# Altium footprint library Quadcopter.PcbLib: 41 footprints (part 1 of 3)
Each footprint in its own frame and in the unit in brackets; x right, y up, seen from the top. Pads: shape width x height; smd on the part's side, far side on the other; paste and mask are expansions set on the pad; w line width, h text height; cw(c..) or ccw(c..) is an arc to the next point about the centre after c.
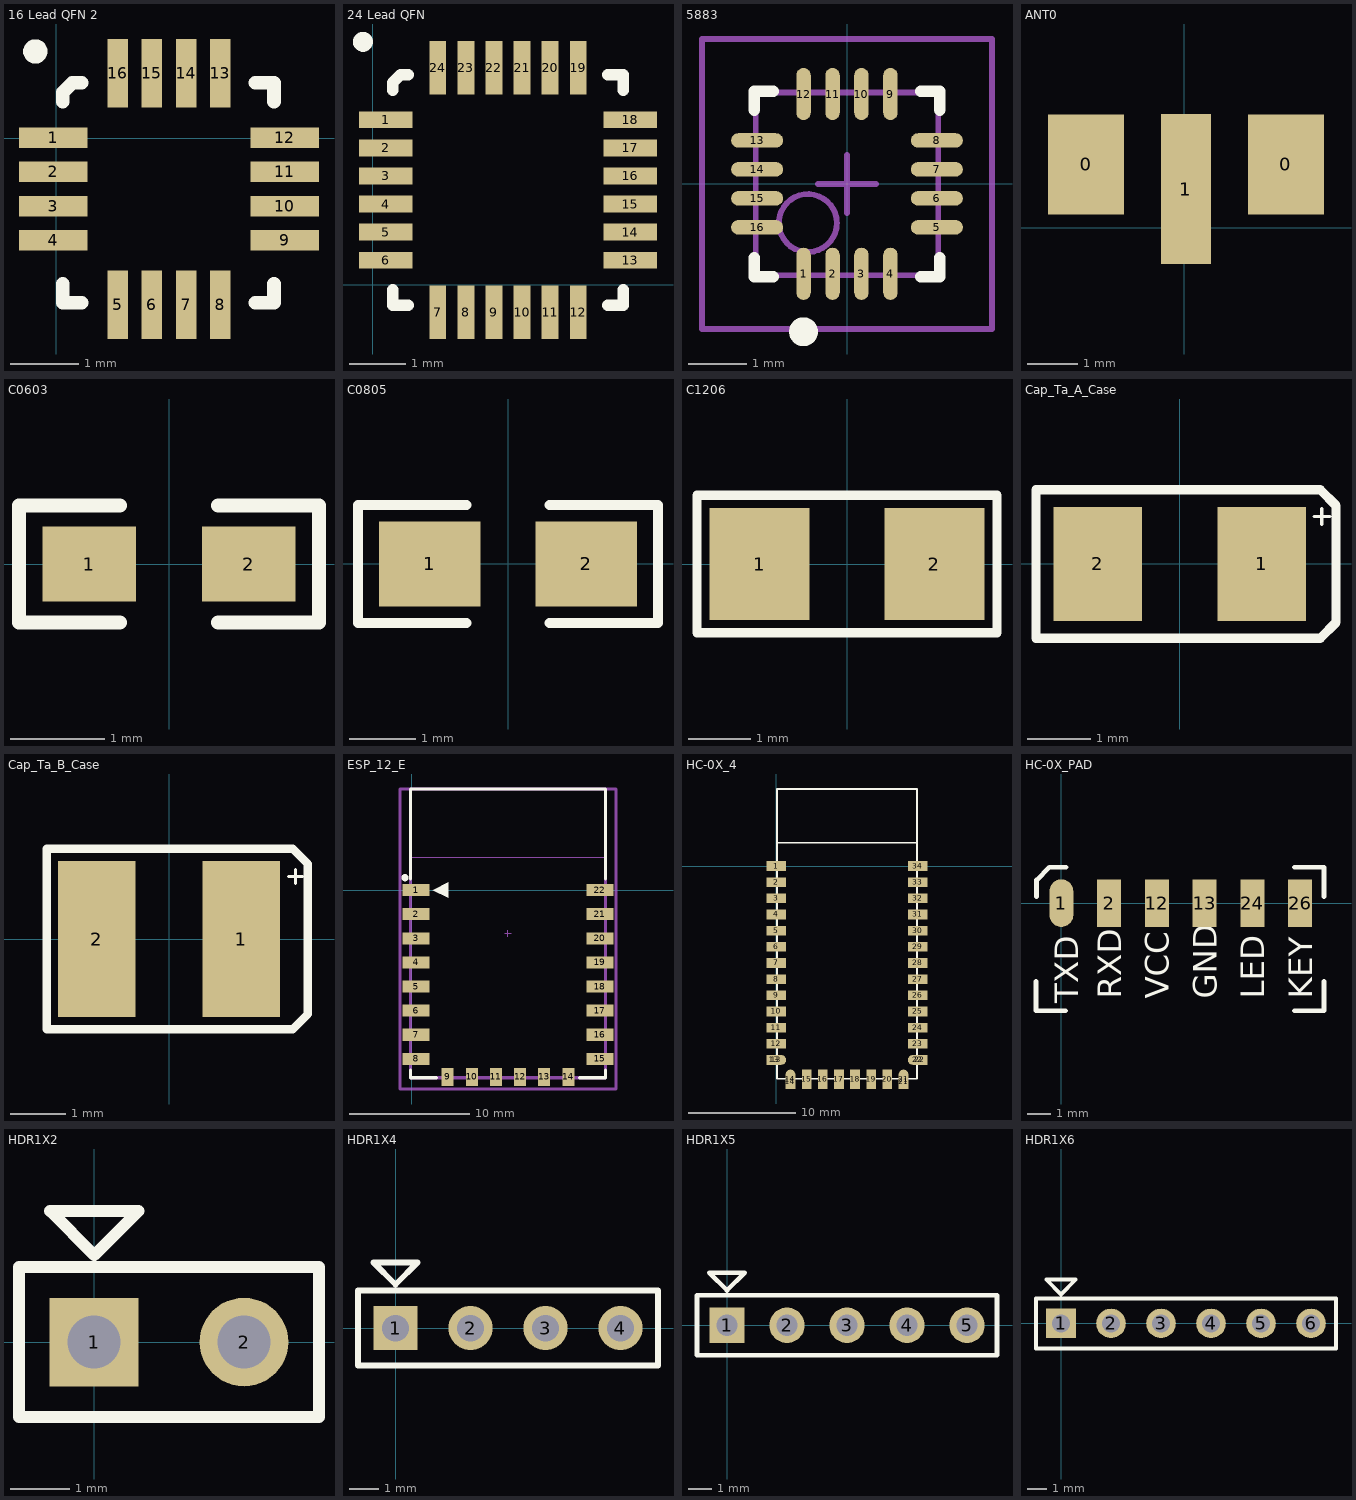
[diagram p0: the footprints below, top view; thin cyan lines are the x and y axes]

## 16 Lead QFN 2 [mm]
pads (16):
  rect 1x0.3 smd: 1(-0.042,0.011) 2(-0.042,-0.489) 3(-0.042,-0.989) 4(-0.042,-1.489) 9(3.34,-1.489) 10(3.34,-0.989) 11(3.34,-0.489) 12(3.34,0.011)
  rect 0.3x1 smd: 5(0.899,-2.43) 6(1.399,-2.43) 7(1.899,-2.43) 8(2.399,-2.43) 13(2.399,0.952) 14(1.899,0.952) 15(1.399,0.952) 16(0.899,0.952)
Top Overlay:
  circle w0.254: c-0.304,1.27 r0.05
  lines w0.2: 0.099,-2.125 0.099,-2.4 0.374,-2.4 ; 0.099,0.536 0.099,0.674 0.236,0.811 0.374,0.811 ; 2.908,-2.4 3.183,-2.4 3.183,-2.125 ; 2.908,0.811 3.183,0.811 3.183,0.536
3D body: height 0.9, standoff 0, extent 0.127,-2.413 3.175,0.762

## 24 Lead QFN [mm]
pads (24):
  rect 0.95x0.3 smd: 1(0.228,2.932) 2(0.228,2.432) 3(0.228,1.932) 4(0.228,1.432) 5(0.228,0.932) 6(0.228,0.432) 13(4.578,0.432) 14(4.578,0.932) 15(4.578,1.432) 16(4.578,1.932) 17(4.578,2.432) 18(4.578,2.932)
  rect 0.3x0.95 smd: 7(1.153,-0.493) 8(1.653,-0.493) 9(2.153,-0.493) 10(2.653,-0.493) 11(3.153,-0.493) 12(3.653,-0.493) 19(3.653,3.857) 20(3.153,3.857) 21(2.653,3.857) 22(2.153,3.857) 23(1.653,3.857) 24(1.153,3.857)
Top Overlay:
  circle w0.254: c-0.177,4.318 r0.05
  lines w0.2: 0.353,-0.093 0.353,-0.368 0.628,-0.368 ; 0.353,3.457 0.353,3.595 0.49,3.732 0.628,3.732 ; 4.178,-0.368 4.453,-0.368 4.453,-0.093 ; 4.178,3.732 4.453,3.732 4.453,3.457
3D body: height 0.89, standoff 0, extent 0.381,-0.381 4.445,3.683

## 5883 [mm] "QNF16"
pads (16):
  oval 0.25x0.9 smd: 1(-0.75,-1.55) 2(-0.25,-1.55) 3(0.25,-1.55) 4(0.75,-1.55) 9(0.75,1.55) 10(0.25,1.55) 11(-0.25,1.55) 12(-0.75,1.55)
  oval 0.9x0.25 smd: 5(1.55,-0.75) 6(1.55,-0.25) 7(1.55,0.25) 8(1.55,0.75) 13(-1.55,0.75) 14(-1.55,0.25) 15(-1.55,-0.25) 16(-1.55,-0.75)
Top Overlay:
  circle w0.25: c-0.75,-2.55 r0.125
  lines w0.2: -1.6,-1.275 -1.6,-1.6 -1.275,-1.6 ; -1.6,1.275 -1.6,1.6 -1.275,1.6 ; 1.275,-1.6 1.6,-1.6 1.6,-1.275 ; 1.275,1.6 1.6,1.6 1.6,1.275
Mechanical 13:
  circle w0.1: c-0.675,-0.675 r0.5
  lines w0.1: -1.575,-1.575 1.575,-1.575 1.575,1.575 -1.575,1.575 -1.575,-1.575
Mechanical 15:
  lines w0.1: -0.5,0 0.5,0 ; 0,-0.5 0,0.5 ; -2.5,-2.5 2.5,-2.5 2.5,2.5 -2.5,2.5 -2.5,-2.5
3D body: height 0.8, standoff 0, extent -1.575,-1.575 1.575,1.575

## ANT0 [mm]
pads (3):
  rect 1.524x2 smd: 0(-1.968,1.27) 0(2.032,1.27)
  rect 1x3 smd: 1(0.032,0.778)

## C0603 [mm]
pads (2):
  rect 1x0.8 smd: 1(-0.85,0) 2(0.85,0)
Top Overlay:
  lines w0.15: -0.525,-0.625 -1.6,-0.625 -1.6,0.625 -0.525,0.625 ; 0.525,-0.625 1.6,-0.625 1.6,0.625 0.525,0.625
3D body: height 0.8, standoff 0, extent -0.489,-0.381 0.489,0.381
3D body: height 0.8, standoff 0, extent 0.489,-0.381 0.787,0.381
3D body: height 0.8, standoff 0, extent -0.787,-0.381 -0.489,0.381

## C0805 [mm]
pads (2):
  rect 1.524x1.27 smd: 1(-1.175,0) 2(1.175,0)
Top Overlay:
  lines w0.15: -0.625,-0.887 -2.25,-0.887 -2.25,0.887 -0.625,0.887 ; 0.625,-0.888 2.25,-0.888 2.25,0.887 0.625,0.887
3D body: height 1, standoff 0, extent -1,-0.6 -0.595,0.6
3D body: height 1, standoff 0, extent 0.595,-0.6 1,0.6
3D body: height 1, standoff 0, extent -0.595,-0.6 0.595,0.6

## C1206 [mm]
pads (2):
  rect 1.6x1.8 smd: 1(-1.4,0) 2(1.4,0)
Top Overlay:
  lines w0.15: -2.4,-1.1 -2.4,0 -2.4,1.1 2.4,1.1 2.4,-1.1 -2.4,-1.1
3D body: height 1.25, standoff 0, extent -1.1,-0.8 1.1,0.8
3D body: height 1.25, standoff 0, extent 1.1,-0.8 1.6,0.8
3D body: height 1.25, standoff 0, extent -1.6,-0.8 -1.1,0.8

## Cap_Ta_A_Case [mm]
pads (2):
  rect 1.4x1.8 smd: 1(1.3,0) 2(-1.3,0)
Top Overlay:
  lines w0.05: 2.125,0.75 2.375,0.75 ; 2.25,0.625 2.25,0.875
  lines w0.15: -2.275,-1.175 2.225,-1.175 2.475,-0.925 2.475,0.925 2.225,1.175 -2.275,1.175 -2.275,0.15 -2.275,-1.175
3D body "User Library-CAP_TANT_3216-18_A_case_modified.STEP": height 1.7, standoff 0, extent -1.7,-0.9 1.7,0.9

## Cap_Ta_B_Case [mm]
pads (2):
  rect 1.4x2.8 smd: 1(1.3,0) 2(-1.3,0)
Top Overlay:
  lines w0.05: 2.15,1.125 2.4,1.125 ; 2.275,1 2.275,1.25
  lines w0.15: -2.2,-1.625 -2.2,0 -2.2,1.625 2.225,1.625 2.5,1.35 2.5,-1.35 2.225,-1.625 -2.2,-1.625
3D body "User Library-QT02752_modified.STEP": height 1.95, standoff 0.04, extent -1.769,-1.385 1.894,1.415

## ESP_12_E [mm] "ESP-12 Wi-Fi Module by AI-Thinker"
height 3.2
pads (22):
  rect 2.25x1 smd: 1(0.375,0) 2(0.375,-2) 3(0.375,-4) 4(0.375,-6) 5(0.375,-8) 6(0.375,-10) 7(0.375,-12) 8(0.375,-14) 15(15.625,-14) 16(15.625,-12) 17(15.625,-10) 18(15.625,-8) 19(15.625,-6) 20(15.625,-4) 21(15.625,-2) 22(15.625,0)
  rect 1x1.5 smd: 9(3,-15.5) 10(5,-15.5) 11(7,-15.5) 12(9,-15.5) 13(11,-15.5) 14(13,-15.5)
Top Overlay:
  circle w0.3: c-0.55,1.025 r0.15
  region: 1.77,0 3.04,-0.635 3.04,0.635
  lines w0.254: -0.084,-14.916 -0.084,-15.568 2.068,-15.568 ; -0.084,0.916 -0.084,8.371 16.084,8.371 16.084,0.916 ; 13.932,-15.568 16.084,-15.568 16.084,-14.916
Mechanical 13:
  lines w0.051: -0.127,2.727 -0.127,8.382 16.129,8.382 16.129,2.727 -0.127,2.727
  lines w0.254: -0.084,-15.568 16.084,-15.568 16.084,8.371 -0.084,8.371 -0.084,-15.568
  text "CUTOUT POLYGON" at 0.127,7.366 h0.25
  text "ANTENNA AREA" at 0.127,7.874 h0.25
Mechanical 15:
  lines w0.1: 7.746,-3.598 8.254,-3.598 ; 8,-3.852 8,-3.344
  lines w0.254: -0.975,-16.5 -0.975,8.371 16.975,8.371 16.975,-16.5 -0.975,-16.5
3D body "ESP_12_E.STEP": height 2.75, standoff 0.04, extent 0.001,-15.491 16.001,8.509

## HC-0X_4 [mm]
pads (38):
  rect 1.8x0.9 smd: 1(0,0) 2(0,-1.5) 3(0,-3) 4(0,-4.5) 5(0,-6) 6(0,-7.5) 7(0,-9) 8(0,-10.5) 9(0,-12) 10(0,-13.5) 11(0,-15) 12(0,-16.5) 23(13.1,-16.5) 24(13.1,-15) 25(13.1,-13.5) 26(13.1,-12) 27(13.1,-10.5) 28(13.1,-9) 29(13.1,-7.5) 30(13.1,-6) 31(13.1,-4.5) 32(13.1,-3) 33(13.1,-1.5) 34(13.1,0)
  rect 1.35x0.9 smd: 13(-0.225,-18) 22(13.325,-18)
  oval 1.8x0.9 smd: 13(0,-18) 22(13.1,-18)
  rect 0.9x1.35 smd: 14(1.3,-20.025) 21(11.8,-20.025)
  oval 0.9x1.8 smd: 14(1.3,-19.8) 21(11.8,-19.8)
  rect 0.9x1.8 smd: 15(2.8,-19.8) 16(4.3,-19.8) 17(5.8,-19.8) 18(7.3,-19.8) 19(8.8,-19.8) 20(10.3,-19.8)
Top Overlay:
  lines w0.152: 0.05,2.15 13.05,2.15 ; 0.05,-19.75 0.05,7.15 13.05,7.15 13.05,-19.75 0.05,-19.75

## HC-0X_PAD [mm]
pads (6):
  oval 1x2 smd: 1(0,0)
  rect 1x2 smd: 2(2,0) 12(4,0) 13(6,0) 24(8,0) 26(10,0)
Top Overlay:
  lines w0.2: -1.06,-3.265 -1.06,-4.5 0.175,-4.5 ; -1.035,0.265 -1.035,0.965 -0.5,1.5 0.2,1.5 ; 9.765,-4.5 11,-4.5 11,-3.265 ; 9.765,1.5 11,1.5 11,0.265
  text "TXD" at 0.7,-4.2 h1
  text "KEY" at 10.5,-4 h1
  text "LED" at 8.5,-4 h1
  text "GND" at 6.5,-4 h1
  text "VCC" at 4.5,-4 h1
  text "RXD" at 2.5,-4 h1

## HDR1X2 [mm] "Connector; Header; 2 Position"
pads (2):
  rect 1.5x1.5 hole 0.9: 1(0,0)
  round 1.5 hole 0.9: 2(2.54,0)
Top Overlay:
  lines w0.2: -1.27,-1.27 3.81,-1.27 3.81,1.27 -1.27,1.27 -1.27,-1.27 ; -0.745,2.22 0.005,1.47 0.755,2.22 -0.745,2.22

## HDR1X4 [mm] "Connector; Header; 4 Position"
pads (4):
  rect 1.5x1.5 hole 0.9: 1(0,0)
  round 1.5 hole 0.9: 2(2.54,0) 3(5.08,0) 4(7.62,0)
Top Overlay:
  lines w0.2: -1.27,-1.27 -1.27,1.27 8.89,1.27 8.89,-1.27 -1.27,-1.27 ; -0.75,2.225 0.75,2.225 0,1.475 -0.75,2.225

## HDR1X5 [mm] "Connector; Header; 5 Position"
height 1.1
pads (5):
  rect 1.5x1.5 hole 0.9: 1(0,0)
  round 1.5 hole 0.9: 2(2.54,0) 3(5.08,0) 4(7.62,0) 5(10.16,0)
Top Overlay:
  lines w0.2: -1.27,-1.27 11.43,-1.27 11.43,1.27 -1.27,1.27 -1.27,-1.27 ; -0.75,2.225 0,1.475 0.75,2.225 -0.75,2.225

## HDR1X6 [mm] "Connector; Header; 6 Position"
height 1.1
pads (6):
  rect 1.5x1.5 hole 0.9: 1(0,0)
  round 1.5 hole 0.9: 2(2.54,0) 3(5.08,0) 4(7.62,0) 5(10.16,0) 6(12.7,0)
Top Overlay:
  lines w0.2: -1.27,-1.27 -1.27,1.27 13.97,1.27 13.97,-1.27 -1.27,-1.27 ; -0.75,2.225 0.75,2.225 0,1.475 -0.75,2.225